# EAGLE library part WDMX_NANO_DEV (library Blizzard_Library)
W-DMX Nano - It's made in Sweeden
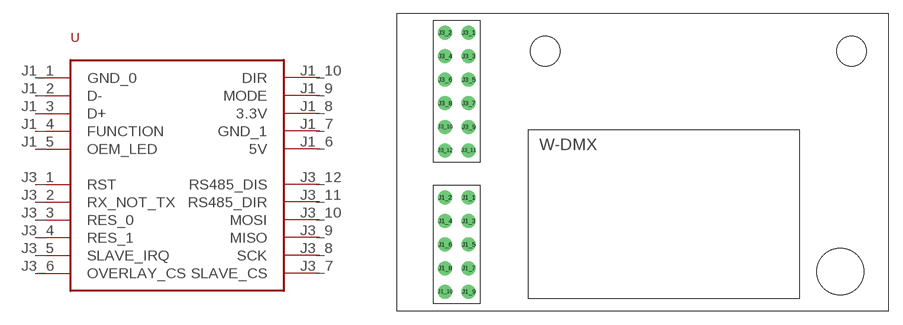
[diagram p9: symbol with the pads of WDMX_NANO_PKG; footprint WDMX_NANO_PKG]

Designator prefix U

## WDMX_NANO_DEV (PN: W-DMX Nano)  [WDMX_NANO_PKG]
J1_1  GND_0
J1_2  D-
J1_3  D+
J1_4  FUNCTION
J1_5  OEM_LED
J1_6  5V
J1_7  GND_1
J1_8  3.3V
J1_9  MODE
J1_10  DIR
J3_1  RST
J3_2  RX_NOT_TX
J3_3  RES_0
J3_4  RES_1
J3_5  SLAVE_IRQ
J3_6  OVERLAY_CS
J3_7  SLAVE_CS
J3_8  SCK
J3_9  MISO
J3_10  MOSI
J3_11  RS485_DIR
J3_12  RS485_DIS

## Footprint WDMX_NANO_PKG (pad centres in mm)
WDMX Nano
drill 1: J1_1 0,-17.78; J1_2 -2.54,-17.78; J1_3 0,-20.32; J1_4 -2.54,-20.32; J1_5 0,-22.86; J1_6 -2.54,-22.86; J1_7 0,-25.4; J1_8 -2.54,-25.4; J1_9 0,-27.94; J1_10 -2.54,-27.94; J3_1 0,0; J3_2 -2.54,0; J3_3 0,-2.54; J3_4 -2.54,-2.54; J3_5 0,-5.08; J3_6 -2.54,-5.08; J3_7 0,-7.62; J3_8 -2.54,-7.62; J3_9 0,-10.16; J3_10 -2.54,-10.16; J3_11 0,-12.7; J3_12 -2.54,-12.7
hole 3.2 at 8.26,-2.01
hole 3.2 at 41.26,-2.01